# EAGLE library part LTC3770 (library PowerProducts)
Fast No RSENSE Step-Down Synchronous Controller with Margining, Tracking and PLL
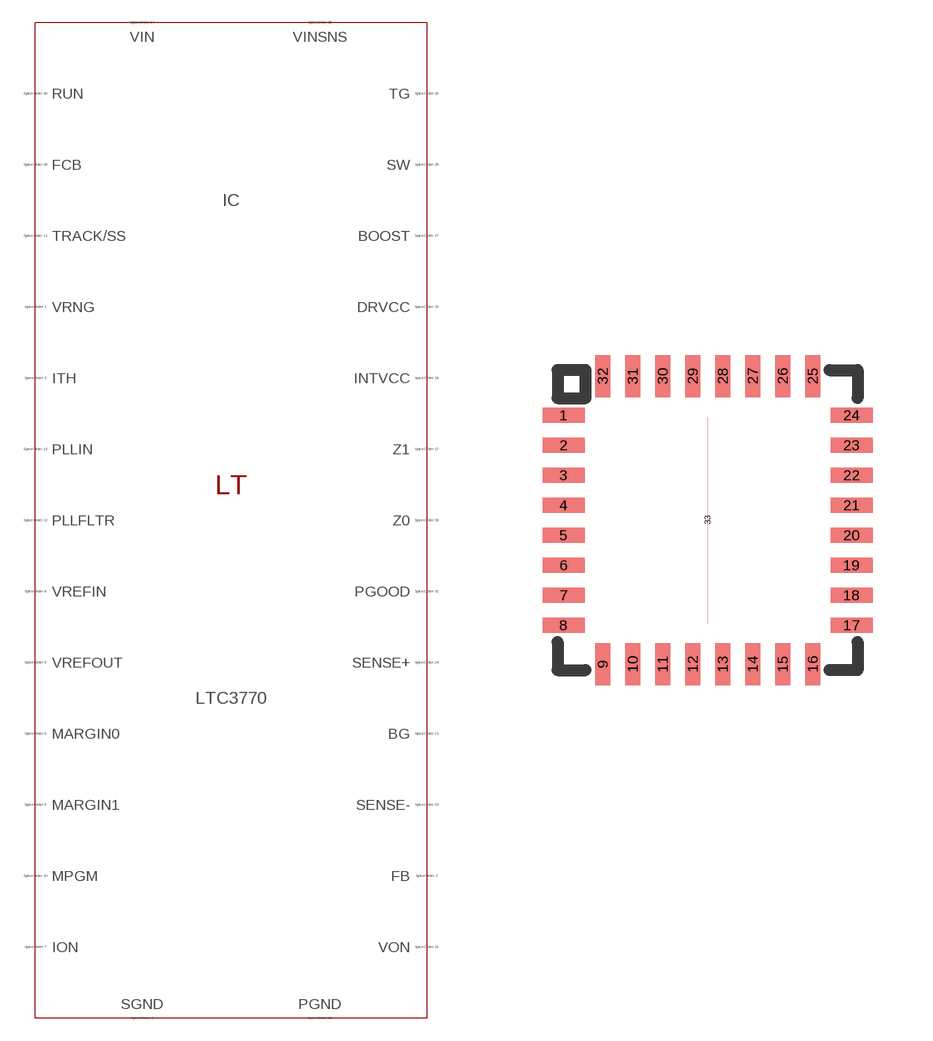
[diagram p317: symbol with the pads of QFN32(UH); footprint QFN32(UH)]

Designator prefix IC

## LTC3770 (SPICEMODEL: LTC3770.sub; SPICEPREFIX: X; VALUE2: LTC3770)  [QFN32(UH)]
1  VRNG  pas
2  FB  pas
3  ITH  pas
4  SGND  pas
5  MARGIN1  pas
6  MARGIN0  pas
7  ION  pas
8  VREFIN  pas
9  VREFOUT  pas
10  MPGM  pas
11  TRACK/SS  pas
12  PLLFLTR  pas
13  PLLIN  pas
14  VIN  pas
15  VINSNS  pas
16  INTVCC  pas
17  Z1  pas
18  Z1  pas
19  INTVCC  pas
20  DRVCC  pas
21  BG  pas
22  PGND  pas
23  SENSE-  pas
24  SENSE+  pas
25  SW  pas
26  TG  pas
27  BOOST  pas
28  Z0  pas
29  FCB  pas
30  RUN  pas
31  VON  pas
32  PGOOD  pas
33  SGND  pas

## Footprint QFN32(UH) (pad centres in mm)
Package generated from: QFN32(UH).asc (!PADS-POWERPCB-V5.0-BASIC! DESIGN DATABASE ASCII FILE 1.0) with :import-pads-powerpcb-v5.ulp Version 1.0.1 at 04.10.2012 14:11:25
smd 1.05 x 0.375: 1 -3.6,2.625; 2 -3.6,1.875; 3 -3.6,1.125; 4 -3.6,0.375; 5 -3.6,-0.375; 6 -3.6,-1.125; 7 -3.6,-1.875; 8 -3.6,-2.625; 17 3.6,-2.625; 18 3.6,-1.875; 19 3.6,-1.125; 20 3.6,-0.375; 21 3.6,0.375; 22 3.6,1.125; 23 3.6,1.875; 24 3.6,2.625
smd 0.375 x 1.05: 9 -2.625,-3.6; 10 -1.875,-3.6; 11 -1.125,-3.6; 12 -0.375,-3.6; 13 0.375,-3.6; 14 1.125,-3.6; 15 1.875,-3.6; 16 2.625,-3.6; 25 2.625,3.6; 26 1.875,3.6; 27 1.125,3.6; 28 0.375,3.6; 29 -0.375,3.6; 30 -1.125,3.6; 31 -1.875,3.6; 32 -2.625,3.6
smd 0 x 5.175: 33 0,0